# EAGLE library part MAX1736 (library X893)
SOT23, Single-Cell Li+ Battery Charger for Current-Limited Supply http://www.maxim-ic.com/datasheet/index.mvp/id/2219
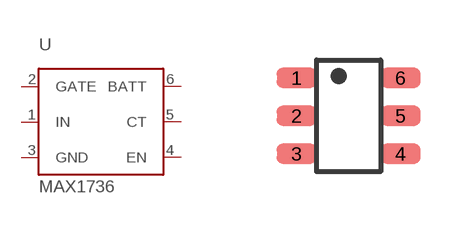
[diagram p183: symbol with the pads of SOT23-6; footprint SOT23-6]

Designator prefix U

## MAX1736  [SOT23-6]
1  IN  pas
2  GATE  pas
3  GND  pwr
4  EN  in
5  CT  pas
6  BATT  pas

## Footprint SOT23-6 (pad centres in mm)
smd 1 x 0.5: 1 -1.3,0.95; 2 -1.3,0; 3 -1.3,-0.95; 4 1.3,-0.95; 5 1.3,0; 6 1.3,0.95